# EAGLE library part MAX14757EUE+T (library MAX14757EUE+T)
Analog Switch ICs Quad SPST +70V Analog Switches Source: Datasheet <https://datasheets.maximintegrated.com/en/ds/MAX14756-MAX14758.pdf>
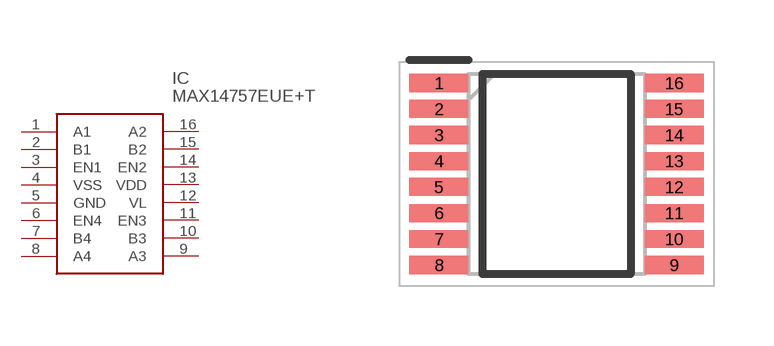
[diagram p0: symbol with the pads of SOP65P640X110-16N; footprint SOP65P640X110-16N]

Designator prefix IC

## MAX14757EUE+T (Description: Analog Switch ICs Quad SPST +70V Analog Switches; Height: 1.1mm; Manufacturer_Name: Analog Devices; Manufacturer_Part_Number: MAX14757EUE+T; Mouser_Part_Number: 700-MAX14757EUE+T; Mouser_Price-Stock: https://www.mouser.co.uk/ProductDetail/Analog-Devices-Maxim-Integrated/MAX14757EUE%2bT?qs=tT6YvvQkxsyGH%2F%2FLSPFCfQ%3D%3D)  [SOP65P640X110-16N]
1  A1
2  B1
3  EN1
4  VSS
5  GND
6  EN4
7  B4
8  A4
9  A3
10  B3
11  EN3
12  VL
13  VDD
14  EN2
15  B2
16  A2

## Footprint SOP65P640X110-16N (pad centres in mm)
16-Pin TSSOP
smd 1.475 x 0.45: 1 -2.938,2.275; 2 -2.938,1.625; 3 -2.938,0.975; 4 -2.938,0.325; 5 -2.938,-0.325; 6 -2.938,-0.975; 7 -2.938,-1.625; 8 -2.938,-2.275; 9 2.938,-2.275; 10 2.938,-1.625; 11 2.938,-0.975; 12 2.938,-0.325; 13 2.938,0.325; 14 2.938,0.975; 15 2.938,1.625; 16 2.938,2.275